# Altium integrated library IPB60R165CP.IntLib: 1 symbol
Pins are listed as number, name and electrical type; pins without a type are passive.

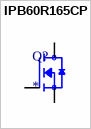
[diagram p0: symbol IPB60R165CP]

## IPB60R165CP
designator Q?
N-Channel 600 V 21A (Tc) 192W (Tc) Surface Mount PG-TO263-3-2; MP: IPB60R165CP; MF: Infineon; Availability: In Stock; Package: TO-263 Infineon; SnapEDA_Link: https://www.snapeda.com/parts/IPB60R165CP/Infineon/view-part/?ref=snap; Price: None; Value: *; Check_prices: https://www.snapeda.com/parts/IPB60R165CP/Infineon/view-part/?ref=eda
footprint DPAK254P1524X457-3N
pins: 1 G, 2 D, 3 S